# Altium footprint library Diodes.PcbLib: 3 footprints
Each footprint in its own frame and in the unit in brackets; x right, y up, seen from the top. Pads: shape width x height; smd on the part's side, far side on the other; paste and mask are expansions set on the pad; w line width, h text height; cw(c..) or ccw(c..) is an arc to the next point about the centre after c.
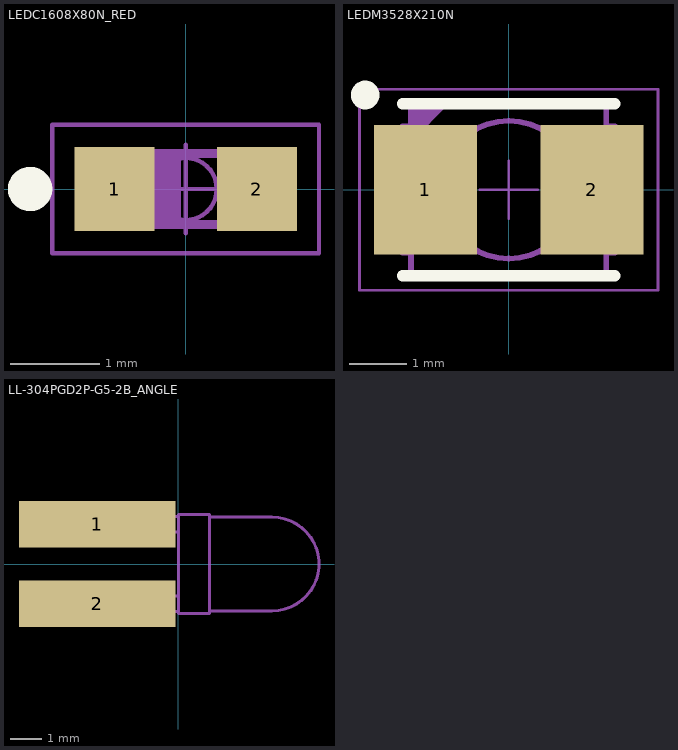
[diagram p0: the footprints below, top view; thin cyan lines are the x and y axes]

## LEDC1608X80N_RED [mm] "Chip RED LED, 2-Leads, Body 1.6x0.8mm, IPC Medium Density"
height 0.8
pads (2):
  rect 0.9x0.95 smd: 1(-0.8,0) 2(0.8,0)
Top Overlay:
  circle w0.25: c-1.75,0 r0.125
Mechanical 14:
  lines w0.1: -0.7,-0.4 -0.7,0.4 ; -0.6,-0.4 -0.6,0.4 ; -0.5,-0.4 -0.5,0.4 ; -0.4,-0.4 -0.4,0.4 ; -0.3,-0.4 -0.3,0.4 ; -0.2,-0.4 -0.2,0.4 ; -0.1,-0.4 -0.1,0.4 ; -0.8,-0.4 0.8,-0.4 0.8,0.4 -0.8,0.4 -0.8,-0.4
Mechanical 15:
  circle w0.05: c0,0 r0.35
  lines w0.05: -0.5,0 0.5,0 ; 0,-0.5 0,0.5 ; -1.5,-0.725 1.5,-0.725 1.5,0.725 -1.5,0.725 -1.5,-0.725
3D body "LEDC1608X80N_RED.stp": height 0.8, standoff 0, extent -0.8,-0.4 0.8,0.4

## LEDM3528X210N [mm] "Molded SMD LED, 2-Leads, Body 3.5x2.8mm, IPC Medium Density"
height 2.1
pads (2):
  rect 1.8x2.25 smd: 1(-1.45,0) 2(1.45,0)
Top Overlay:
  circle w0.25: c-2.5,1.65 r0.125
  lines w0.2: -1.85,-1.5 1.85,-1.5 ; -1.85,1.5 1.85,1.5
Mechanical 13:
  circle w0.1: c0,0 r1.2
  region: -1.7,1.5 -1.699,1.499 -1.699,0.901 -1.1,1.5
  lines w0.1: -1.85,-1.1 -1.85,1.1 -1.703,1.1 ; -1.847,-1.1 -1.7,-1.1 ; -1.699,0.901 -1.1,1.5 ; 1.7,1.5 -1.7,1.5 -1.7,-1.5 1.7,-1.5 1.7,1.5 ; 1.7,-1.1 1.847,-1.1 ; 1.7,1.1 1.847,1.1 ; 1.85,-1.1 1.85,1.1
  text ".Designator" at -0.815,-0.41 h1.5
Mechanical 15:
  lines w0.05: -0.5,0 0.5,0 ; 0,-0.5 0,0.5 ; -2.6,-1.75 2.6,-1.75 2.6,1.75 -2.6,1.75 -2.6,-1.75
3D body "LEDM3528X210N_YELLOW.stp": height 2.1, standoff 0, extent -1.85,-1.5 1.85,1.5

## LL-304PGD2P-G5-2B_ANGLE [mm] "LED, Green, Body Dia. 3.43 mm, Pin spacing 2.54mm"
height 6.35
pads (2):
  rect 5x1.5 smd: 1(-2.6,1.27) 2(-2.6,-1.27)
Mechanical 1:
  lines w0.1: 0,-1.58 0,1.58
Mechanical 13:
  lines w0.1: 0,-1.52 -5,-1.52 -5,-1.02 0,-1.02 ; 0,1.02 -5,1.02 -5,1.52 0,1.52 ; 1,-1.5 3,-1.5 ccw(c3,0) 3,1.5 1,1.5 ; 0,-1.58 1,-1.58 1,1.58 0,1.58 0,-1.58
  text ".Designator" at 1.316,-0.45 h1.75
3D body "LED3mm_LL-304PGD2P-G5-2B.STEP": height 1.82, standoff -1.34, extent -5,-1.58 4.5,1.58